# Altium footprint library IC.PCBLIB: 73 footprints (part 4 of 5)
Each footprint in its own frame and in the unit in brackets; x right, y up, seen from the top. Pads: shape width x height; smd on the part's side, far side on the other; paste and mask are expansions set on the pad; w line width, h text height; cw(c..) or ccw(c..) is an arc to the next point about the centre after c.
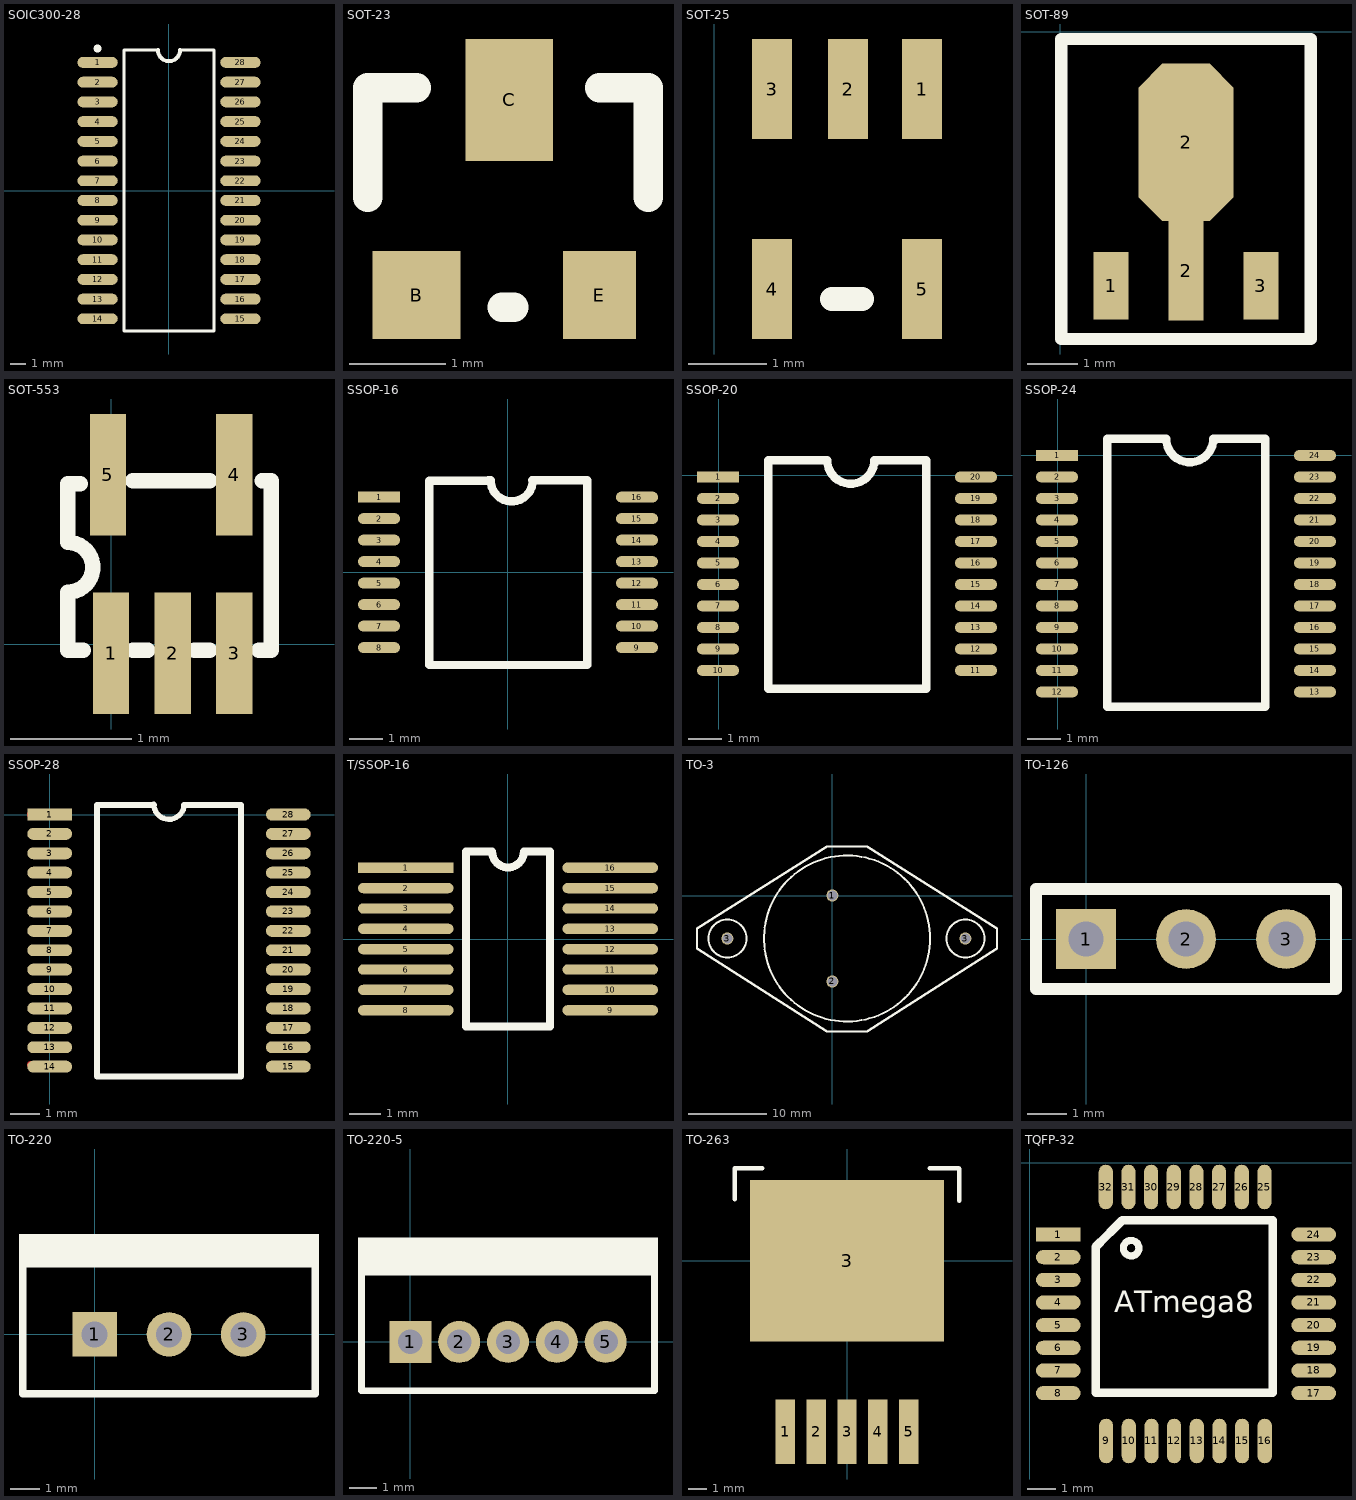
[diagram p3: the footprints below, top view; thin cyan lines are the x and y axes]

## SOIC300-28 [mm] "SOIC, 28-Leads, Body 17.9x7.5mm, Pitch 1.27mm, IPC Low Density"
height 2.65
pads (28):
  oval 2.6x0.7 smd: 1(-4.6,8.255) 2(-4.6,6.985) 3(-4.6,5.715) 4(-4.6,4.445) 5(-4.6,3.175) 6(-4.6,1.905) 7(-4.6,0.635) 8(-4.6,-0.635) 9(-4.6,-1.905) 10(-4.6,-3.175) 11(-4.6,-4.445) 12(-4.6,-5.715) 13(-4.6,-6.985) 14(-4.6,-8.255) 15(4.6,-8.255) 16(4.6,-6.985) 17(4.6,-5.715) 18(4.6,-4.445) 19(4.6,-3.175) 20(4.6,-1.905) 21(4.6,-0.635) 22(4.6,0.635) 23(4.6,1.905) 24(4.6,3.175) 25(4.6,4.445) 26(4.6,5.715) 27(4.6,6.985) 28(4.6,8.255)
TopOverlay:
  circle w0.25: c-4.6,9.155 r0.125
  lines w0.2: -2.9,9.05 -2.9,-9.05 2.9,-9.05 2.9,9.05
  lines w0.203: -2.9,9.05 -0.715,9.05 ; 0.715,9.05 2.9,9.05
  lines w0.254: -0.715,9.05 ccw(c0,9.05) 0.715,9.05

## SOT-23 [mil]
pads (3):
  rect 36x36 smd: B(47.76,-120.28)
  rect 36x50 smd: C(85.75,-40.28)
  rect 30x36 smd: E(122.75,-120.28)
TopOverlay:
  lines w12: 27.75,-80.28 27.75,-35.28 47.76,-35.28 ; 82.75,-125.28 87.75,-125.28 ; 122.75,-35.28 142.75,-35.28 142.75,-80.28

## SOT-25 [mil]
pads (5):
  rect 20x50 smd: 1(104,-40) 2(67,-40) 3(29,-40) 4(29,-140) 5(104,-140)
TopOverlay:
  lines w12: 59,-145 74,-145

## SOT-89 [mm]
pads (4):
  rect 0.7x1.35 smd: 1(1.016,-5.08) 3(4.016,-5.08)
  rect 0.7x1.99 smd: 2(2.516,-4.785)
  oct 1.9x3.15 smd: 2(2.516,-2.215)
TopOverlay:
  lines w0.25: 0.016,-6.148 5.016,-6.148 5.016,-0.147 0.016,-0.147 0.016,-6.148

## SOT-553 [mm]
pads (5):
  rect 0.3x1 smd: 1(0,-0.076) 2(0.508,-0.076) 3(1.016,-0.076) 4(1.016,1.397) 5(-0.025,1.397)
TopOverlay:
  lines w0.127: -0.254,1.321 -0.356,1.321 -0.356,0.838 cw(c-0.356,0.633) -0.356,0.429 -0.356,-0.051 -0.229,-0.051 ; 0.178,-0.051 0.305,-0.051 ; 0.178,1.346 0.813,1.346 ; 0.686,-0.051 0.813,-0.051 ; 1.219,-0.051 1.321,-0.051 1.321,1.346 1.245,1.346

## SSOP-16 [mm]
pads (16):
  rect 1.27x0.33 smd: 1(-3.9,2.275)
  oval 1.27x0.33 smd: 2(-3.9,1.625) 3(-3.9,0.975) 4(-3.9,0.325) 5(-3.9,-0.325) 6(-3.9,-0.975) 7(-3.9,-1.625) 8(-3.9,-2.275) 9(3.9,-2.275) 10(3.9,-1.625) 11(3.9,-0.975) 12(3.9,-0.325) 13(3.9,0.325) 14(3.9,0.975) 15(3.9,1.625) 16(3.9,2.275)
TopOverlay:
  lines w0.254: -2.376,-2.8 -2.376,2.775 -0.606,2.775 -0.598,2.783 ; -2.325,-2.8 2.399,-2.8 2.399,2.775 2.391,2.783 0.725,2.783 ; -0.522,2.783 ccw(c0.113,2.783) 0.748,2.783

## SSOP-20 [mm]
pads (20):
  rect 1.27x0.33 smd: 1(-0.025,-0.051)
  oval 1.27x0.33 smd: 2(-0.025,-0.701) 3(-0.025,-1.351) 4(-0.025,-2.001) 5(-0.025,-2.651) 6(-0.025,-3.301) 7(-0.025,-3.951) 8(-0.025,-4.601) 9(-0.025,-5.251) 10(-0.025,-5.901) 11(7.775,-5.901) 12(7.775,-5.251) 13(7.775,-4.601) 14(7.775,-3.951) 15(7.775,-3.301) 16(7.775,-2.651) 17(7.775,-2.001) 18(7.775,-1.351) 19(7.775,-0.701) 20(7.775,-0.051)
TopOverlay:
  lines w0.254: 6.223,-6.45 1.499,-6.45 1.499,0.449 3.269,0.449 3.277,0.457 ccw(c3.99,0.457) 4.703,0.457 6.266,0.457 6.274,0.449 6.274,-6.45

## SSOP-24 [mm]
pads (24):
  rect 1.27x0.33 smd: 1(-0.025,0)
  oval 1.27x0.33 smd: 2(-0.025,-0.65) 3(-0.025,-1.3) 4(-0.025,-1.95) 5(-0.025,-2.6) 6(-0.025,-3.25) 7(-0.025,-3.9) 8(-0.025,-4.55) 9(-0.025,-5.2) 10(-0.025,-5.85) 11(-0.025,-6.5) 12(-0.025,-7.15) 13(7.775,-7.15) 14(7.775,-6.5) 15(7.775,-5.85) 16(7.775,-5.2) 17(7.775,-4.55) 18(7.775,-3.9) 19(7.775,-3.25) 20(7.775,-2.6) 21(7.775,-1.95) 22(7.775,-1.3) 23(7.775,-0.65) 24(7.775,0)
TopOverlay:
  lines w0.254: 6.223,-7.6 1.499,-7.6 1.499,0.5 3.269,0.5 3.277,0.508 ccw(c3.99,0.508) 4.703,0.508 6.266,0.508 6.274,0.5 6.274,-7.6

## SSOP-28 [mm]
pads (28):
  rect 1.5x0.4 smd: 1(0,0)
  oval 1.5x0.4 smd: 2(0,-0.65) 3(0,-1.3) 4(0,-1.95) 5(0,-2.6) 6(0,-3.25) 7(0,-3.9) 8(0,-4.55) 9(0,-5.2) 10(0,-5.85) 11(0,-6.5) 12(0,-7.15) 13(0,-7.8) 14(0,-8.45) 15(8,-8.45) 16(8,-7.8) 17(8,-7.15) 18(8,-6.5) 19(8,-5.85) 20(8,-5.2) 21(8,-4.55) 22(8,-3.9) 23(8,-3.25) 24(8,-2.6) 25(8,-1.95) 26(8,-1.3) 27(8,-0.65) 28(8,0)
TopLayer:
  lines w0.254: -0.635,-8.382 -0.567,-8.45 0,-8.45 ; -0.635,0 0,0 ; 8,-8.45 8.059,-8.509 8.509,-8.509 ; 8,-5.2 8.007,-5.207 ; 8,-0.65 8.621,-0.65 ; 8,0 8.509,0 ; 8,0 7.747,0 8.509,0 ; 8,0 8.509,0 ; 8,0 8.509,0
TopOverlay:
  lines w0.178: 3.492,0.347 ccw(c4,0.347) 4.508,0.332
  lines w0.2: 3.492,0.325 1.585,0.325 1.585,-8.775 6.415,-8.775 6.415,0.325 4.508,0.325

## T/SSOP-16 [mm]
height 15
pads (16):
  rect 3.048x0.33 smd: 1(-3.265,2.275)
  oval 3.048x0.33 smd: 2(-3.265,1.625) 3(-3.265,0.975) 4(-3.265,0.325) 5(-3.265,-0.325) 6(-3.265,-0.975) 7(-3.265,-1.625) 8(-3.265,-2.275) 9(3.265,-2.275) 10(3.265,-1.625) 11(3.265,-0.975) 12(3.265,-0.325) 13(3.265,0.325) 14(3.265,0.975) 15(3.265,1.625) 16(3.265,2.275)
TopOverlay:
  lines w0.254: -1.346,-2.794 1.346,-2.794 1.346,2.794 0.508,2.794 cw(c0,2.794) -0.508,2.794 -1.346,2.794 -1.346,-2.794

## TO-3 [mil]
pads (4):
  round 60 hole 50: 1(0,0) 2(0,-430) 3(-525,-215) 3(665,-215)
TopOverlay:
  circle w10: c-525,-215 r95
  circle w10: c665,-215 r95
  circle w10: c73,-215 r415
  lines w12: -677,-265 -677,-165 -27,245 173,245 823,-165 823,-265 173,-680 -27,-680 -677,-265

## TO-126 [mil]
pads (3):
  rect 60x60 hole 35: 1(0,0)
  round 60 hole 35: 2(100,0) 3(200,0)
TopOverlay:
  lines w12: -50,-50 250,-50 250,50 -50,50 -50,-50

## TO-220 [mil]
pads (3):
  rect 60x60 hole 35: 1(0,0)
  round 60 hole 35: 2(100,0) 3(200,0)
TopOverlay:
  rectangle: -102,95 302,135
  lines w10: -97,-80 -97,95 297,95 297,-80 -97,-80

## TO-220-5 [mil]
pads (5):
  rect 60x60 hole 35: 1(0,0)
  round 60 hole 35: 2(70,0) 3(140,0) 4(210,0) 5(280,0)
TopOverlay:
  rectangle: -75,100 355,150
  lines w10: -70,-70 350,-70 350,100 -70,100 -70,-70

## TO-263 [mil]
pads (6):
  rect 42x140 smd: 1(-134,-370) 2(-67,-370) 3(0,-370) 4(67,-370) 5(134,-370)
  rect 420x350 smd: 3(0,0)
TopOverlay:
  lines w10: -243,134 -243,201 -184,201 ; 179,201 242,201 243,200 243,130

## TQFP-32 [mil]
pads (32):
  rect 62x19.68 smd: 1(40,-100)
  oval 62x19.68 smd: 2(40,-131.5) 3(40,-162.99) 4(40,-194.49) 5(40,-225.98) 6(40,-257.48) 7(40,-288.98) 8(40,-320.47) 17(395,-320.47) 18(395,-288.98) 19(395,-257.48) 20(395,-225.98) 21(395,-194.49) 22(395,-162.99) 23(395,-131.5) 24(395,-100)
  oval 19.68x62 smd: 9(106.51,-387) 10(138.01,-387) 11(169.5,-387) 12(201,-387) 13(232.5,-387) 14(263.99,-387) 15(295.49,-387) 16(326.98,-387) 25(326.52,-33.95) 26(295.02,-33.95) 27(263.53,-33.95) 28(232.03,-33.95) 29(200.53,-33.95) 30(169.04,-33.95) 31(137.54,-33.95) 32(106.05,-33.95)
TopOverlay:
  circle w10: c141.23,-119 r10.77
  lines w12: 93,-116 129,-80 338,-80 338,-320 92,-320 92,-117 98.99,-110.01
  text "ATmega8" at 118,-208 h30